# Altium footprint library Connector_PinHeader_1.00mm.PcbLib: 278 footprints (part 12 of 18)
Each footprint in its own frame and in the unit in brackets; x right, y up, seen from the top. Pads: shape width x height; smd on the part's side, far side on the other; paste and mask are expansions set on the pad; w line width, h text height; cw(c..) or ccw(c..) is an arc to the next point about the centre after c.
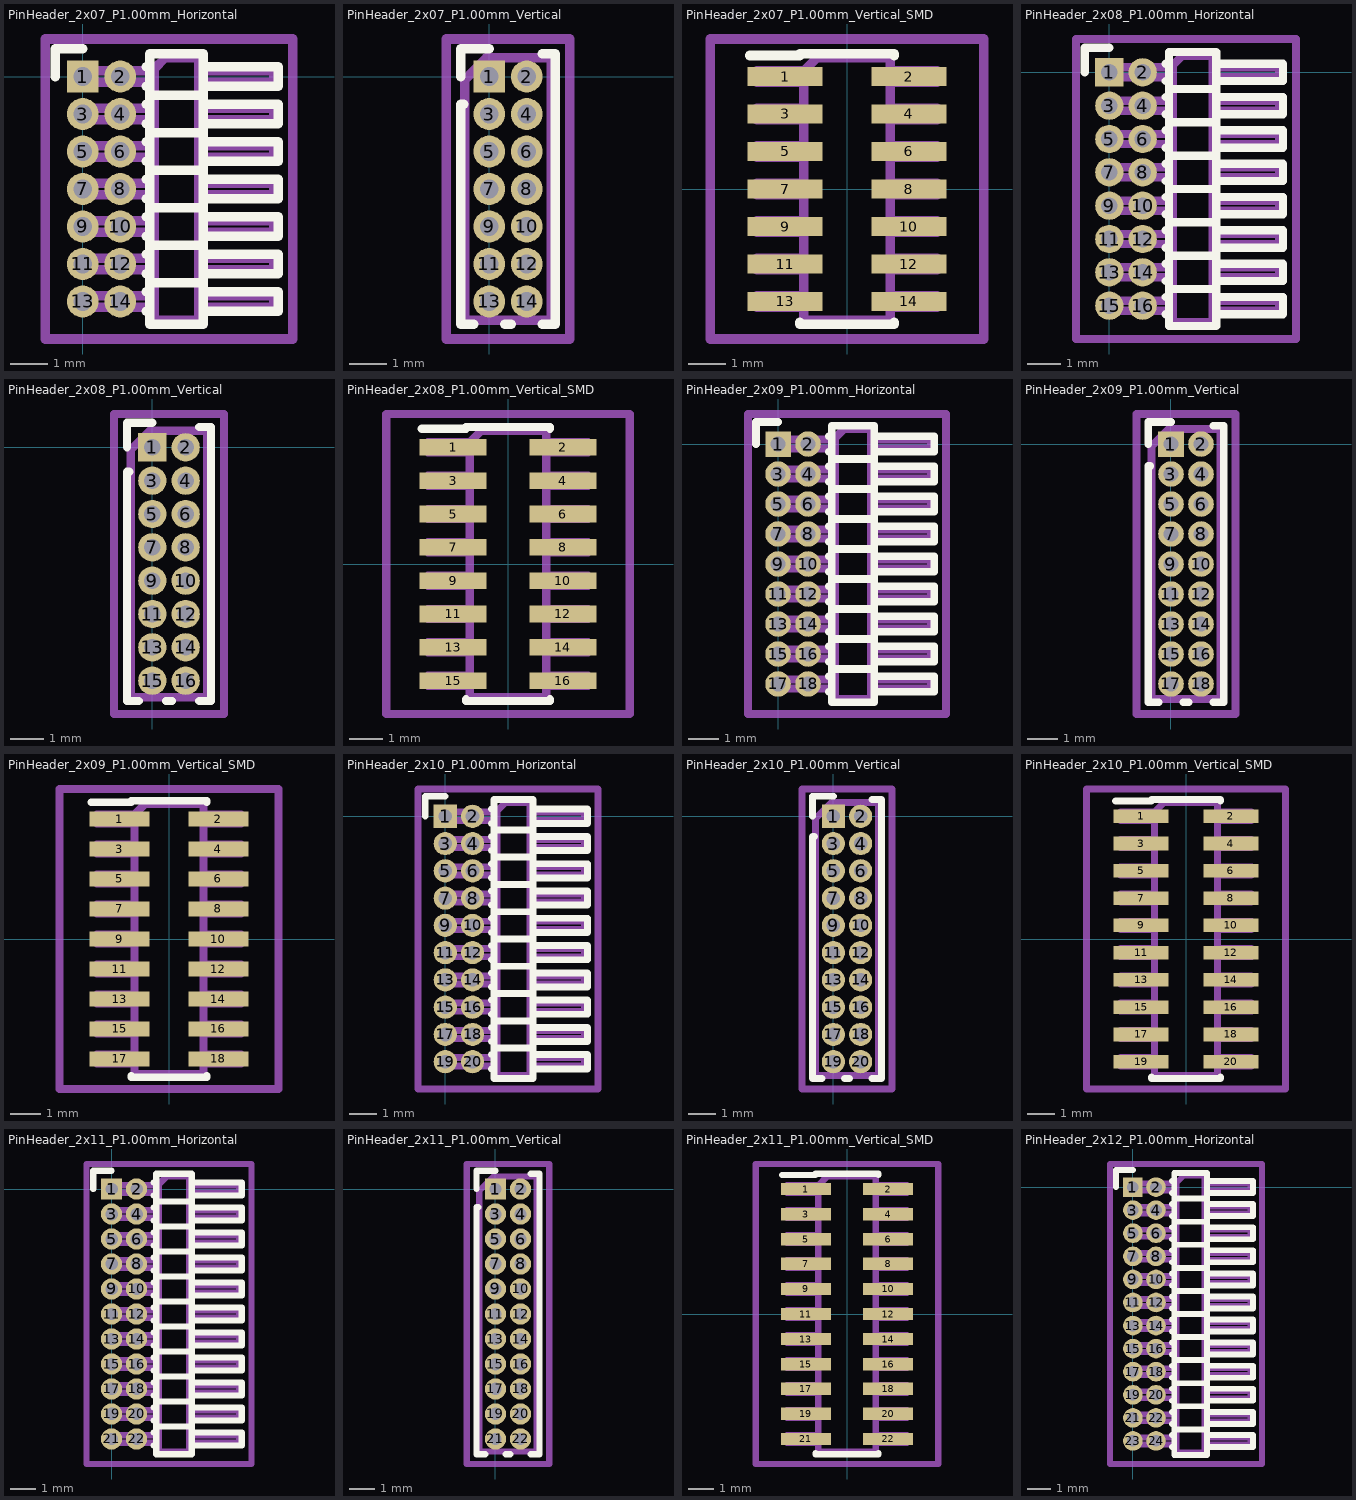
[diagram p11: the footprints below, top view; thin cyan lines are the x and y axes]

## PinHeader_2x07_P1.00mm_Horizontal [mm]
pads (14):
  rect 0.85x0.85 hole 0.5: 1(0,0)
  round 0.85 hole 0.5: 2(1,0) 3(0,-1) 4(1,-1) 5(0,-2) 6(1,-2) 7(0,-3) 8(1,-3) 9(0,-4) 10(1,-4) 11(0,-5) 12(1,-5) 13(0,-6) 14(1,-6)
F.SilkS:
  lines w0.254: -0.735,0 -0.735,0.735 0,0.735 ; 1.687,-6.26 1.79,-6.26 ; 1.687,-5.74 1.79,-5.74 ; 1.687,-5.26 1.79,-5.26 ; 1.687,-4.74 1.79,-4.74 ; 1.687,-4.26 1.79,-4.26 ; 1.687,-3.74 1.79,-3.74 ; 1.687,-3.26 1.79,-3.26 ; 1.687,-2.74 1.79,-2.74 ; 1.687,-2.26 1.79,-2.26 ; 1.687,-1.74 1.79,-1.74 ; 1.687,-1.26 1.79,-1.26 ; 1.687,-0.74 1.79,-0.74 ; 1.687,-0.26 1.79,-0.26 ; 1.687,0.26 1.79,0.26 ; 1.79,-5.5 3.21,-5.5 ; 1.79,-4.5 3.21,-4.5 ; 1.79,-3.5 3.21,-3.5 ; 1.79,-2.5 3.21,-2.5 ; 1.79,-1.5 3.21,-1.5 ; 1.79,-0.5 3.21,-0.5 ; 3.21,-6.26 5.21,-6.26 5.21,-5.74 3.21,-5.74 ; 3.21,-5.26 5.21,-5.26 5.21,-4.74 3.21,-4.74 ; 3.21,-4.26 5.21,-4.26 5.21,-3.74 3.21,-3.74 ; 3.21,-3.26 5.21,-3.26 5.21,-2.74 3.21,-2.74 ; 3.21,-2.26 5.21,-2.26 5.21,-1.74 3.21,-1.74 ; 3.21,-1.26 5.21,-1.26 5.21,-0.74 3.21,-0.74 ; 1.79,-6.61 3.21,-6.61 3.21,0.61 1.79,0.61 1.79,-6.61 ; 3.21,-0.26 5.21,-0.26 5.21,0.26 3.21,0.26 3.21,-0.26
Top Assembly:
  lines w0.254: 1.9,-6.15 -0.15,-6.15 -0.15,-5.85 1.9,-5.85 ; 1.9,-5.15 -0.15,-5.15 -0.15,-4.85 1.9,-4.85 ; 1.9,-4.15 -0.15,-4.15 -0.15,-3.85 1.9,-3.85 ; 1.9,-3.15 -0.15,-3.15 -0.15,-2.85 1.9,-2.85 ; 1.9,-2.15 -0.15,-2.15 -0.15,-1.85 1.9,-1.85 ; 1.9,-1.15 -0.15,-1.15 -0.15,-0.85 1.9,-0.85 ; 1.9,-0.15 -0.15,-0.15 -0.15,0.15 1.9,0.15 ; 3.1,-6.15 5.1,-6.15 5.1,-5.85 3.1,-5.85 ; 3.1,-5.15 5.1,-5.15 5.1,-4.85 3.1,-4.85 ; 3.1,-4.15 5.1,-4.15 5.1,-3.85 3.1,-3.85 ; 3.1,-3.15 5.1,-3.15 5.1,-2.85 3.1,-2.85 ; 3.1,-2.15 5.1,-2.15 5.1,-1.85 3.1,-1.85 ; 3.1,-1.15 5.1,-1.15 5.1,-0.85 3.1,-0.85 ; 3.1,-0.15 5.1,-0.15 5.1,0.15 3.1,0.15 ; 1.9,-6.5 3.1,-6.5 3.1,0.5 2.2,0.5 1.9,0.2 1.9,-6.5
  text "'.Designator'" at 3.105,-5.914 h0.72
Top Courtyard:
  lines w0.254: -1,-7 5.6,-7 5.6,1 -1,1 -1,-7
Top Designator:
  text ".Designator" at -5.318,-3.508 h1.52

## PinHeader_2x07_P1.00mm_Vertical [mm]
pads (14):
  rect 0.85x0.85 hole 0.5: 1(0,0)
  round 0.85 hole 0.5: 2(1,0) 3(0,-1) 4(1,-1) 5(0,-2) 6(1,-2) 7(0,-3) 8(1,-3) 9(0,-4) 10(1,-4) 11(0,-5) 12(1,-5) 13(0,-6) 14(1,-6)
F.SilkS:
  lines w0.254: -0.76,0 -0.76,0.735 0,0.735 ; -0.686,-0.735 -0.76,-0.735 -0.76,-6.61 -0.41,-6.61 ; 0.41,-6.61 0.59,-6.61 ; 1.41,-6.61 1.76,-6.61 1.76,0.61 1.41,0.61
Top Assembly:
  lines w0.254: -0.65,-6.5 1.65,-6.5 1.65,0.5 -0.075,0.5 -0.65,-0.075 -0.65,-6.5
  text "'.Designator'" at 1.34,-7.047 h1
Top Courtyard:
  lines w0.254: -1.15,-7 2.15,-7 2.15,1 -1.15,1 -1.15,-7
Top Designator:
  text ".Designator" at -7.118,-3.543 h1.52

## PinHeader_2x07_P1.00mm_Vertical_SMD [mm]
pads (14):
  rect 2x0.5 smd: 1(-1.65,3) 2(1.65,3) 3(-1.65,2) 4(1.65,2) 5(-1.65,1) 6(1.65,1) 7(-1.65,0) 8(1.65,0) 9(-1.65,-1) 10(1.65,-1) 11(-1.65,-2) 12(1.65,-2) 13(-1.65,-3) 14(1.65,-3)
F.SilkS:
  lines w0.254: -2.59,3.56 -1.26,3.56 -1.26,3.61 1.26,3.61 1.26,3.56 ; -1.26,-3.56 -1.26,-3.61 1.26,-3.61 1.26,-3.56
Top Assembly:
  lines w0.254: -1.15,-3.15 -2.4,-3.15 -2.4,-2.85 -1.15,-2.85 ; -1.15,-2.15 -2.4,-2.15 -2.4,-1.85 -1.15,-1.85 ; -1.15,-1.15 -2.4,-1.15 -2.4,-0.85 -1.15,-0.85 ; -1.15,-0.15 -2.4,-0.15 -2.4,0.15 -1.15,0.15 ; -1.15,0.85 -2.4,0.85 -2.4,1.15 -1.15,1.15 ; -1.15,1.85 -2.4,1.85 -2.4,2.15 -1.15,2.15 ; -1.15,2.85 -2.4,2.85 -2.4,3.15 -1.15,3.15 ; 1.15,-3.15 2.4,-3.15 2.4,-2.85 1.15,-2.85 ; 1.15,-2.15 2.4,-2.15 2.4,-1.85 1.15,-1.85 ; 1.15,-1.15 2.4,-1.15 2.4,-0.85 1.15,-0.85 ; 1.15,-0.15 2.4,-0.15 2.4,0.15 1.15,0.15 ; 1.15,0.85 2.4,0.85 2.4,1.15 1.15,1.15 ; 1.15,1.85 2.4,1.85 2.4,2.15 1.15,2.15 ; 1.15,2.85 2.4,2.85 2.4,3.15 1.15,3.15 ; -1.15,3.15 -1.15,-3.5 1.15,-3.5 1.15,3.5 -0.8,3.5 -1.15,3.15
  text "'.Designator'" at 0.84,-4.047 h1
Top Courtyard:
  lines w0.254: -3.65,-4 3.65,-4 3.65,4 -3.65,4 -3.65,-4
Top Designator:
  text ".Designator" at -7.618,-0.543 h1.52

## PinHeader_2x08_P1.00mm_Horizontal [mm]
pads (16):
  rect 0.85x0.85 hole 0.5: 1(0,0)
  round 0.85 hole 0.5: 2(1,0) 3(0,-1) 4(1,-1) 5(0,-2) 6(1,-2) 7(0,-3) 8(1,-3) 9(0,-4) 10(1,-4) 11(0,-5) 12(1,-5) 13(0,-6) 14(1,-6) 15(0,-7) 16(1,-7)
F.SilkS:
  lines w0.254: -0.735,0 -0.735,0.735 0,0.735 ; 1.687,-7.26 1.79,-7.26 ; 1.687,-6.74 1.79,-6.74 ; 1.687,-6.26 1.79,-6.26 ; 1.687,-5.74 1.79,-5.74 ; 1.687,-5.26 1.79,-5.26 ; 1.687,-4.74 1.79,-4.74 ; 1.687,-4.26 1.79,-4.26 ; 1.687,-3.74 1.79,-3.74 ; 1.687,-3.26 1.79,-3.26 ; 1.687,-2.74 1.79,-2.74 ; 1.687,-2.26 1.79,-2.26 ; 1.687,-1.74 1.79,-1.74 ; 1.687,-1.26 1.79,-1.26 ; 1.687,-0.74 1.79,-0.74 ; 1.687,-0.26 1.79,-0.26 ; 1.687,0.26 1.79,0.26 ; 1.79,-6.5 3.21,-6.5 ; 1.79,-5.5 3.21,-5.5 ; 1.79,-4.5 3.21,-4.5 ; 1.79,-3.5 3.21,-3.5 ; 1.79,-2.5 3.21,-2.5 ; 1.79,-1.5 3.21,-1.5 ; 1.79,-0.5 3.21,-0.5 ; 3.21,-7.26 5.21,-7.26 5.21,-6.74 3.21,-6.74 ; 3.21,-6.26 5.21,-6.26 5.21,-5.74 3.21,-5.74 ; 3.21,-5.26 5.21,-5.26 5.21,-4.74 3.21,-4.74 ; 3.21,-4.26 5.21,-4.26 5.21,-3.74 3.21,-3.74 ; 3.21,-3.26 5.21,-3.26 5.21,-2.74 3.21,-2.74 ; 3.21,-2.26 5.21,-2.26 5.21,-1.74 3.21,-1.74 ; 3.21,-1.26 5.21,-1.26 5.21,-0.74 3.21,-0.74 ; 1.79,-7.61 3.21,-7.61 3.21,0.61 1.79,0.61 1.79,-7.61 ; 3.21,-0.26 5.21,-0.26 5.21,0.26 3.21,0.26 3.21,-0.26
Top Assembly:
  lines w0.254: 1.9,-7.15 -0.15,-7.15 -0.15,-6.85 1.9,-6.85 ; 1.9,-6.15 -0.15,-6.15 -0.15,-5.85 1.9,-5.85 ; 1.9,-5.15 -0.15,-5.15 -0.15,-4.85 1.9,-4.85 ; 1.9,-4.15 -0.15,-4.15 -0.15,-3.85 1.9,-3.85 ; 1.9,-3.15 -0.15,-3.15 -0.15,-2.85 1.9,-2.85 ; 1.9,-2.15 -0.15,-2.15 -0.15,-1.85 1.9,-1.85 ; 1.9,-1.15 -0.15,-1.15 -0.15,-0.85 1.9,-0.85 ; 1.9,-0.15 -0.15,-0.15 -0.15,0.15 1.9,0.15 ; 3.1,-7.15 5.1,-7.15 5.1,-6.85 3.1,-6.85 ; 3.1,-6.15 5.1,-6.15 5.1,-5.85 3.1,-5.85 ; 3.1,-5.15 5.1,-5.15 5.1,-4.85 3.1,-4.85 ; 3.1,-4.15 5.1,-4.15 5.1,-3.85 3.1,-3.85 ; 3.1,-3.15 5.1,-3.15 5.1,-2.85 3.1,-2.85 ; 3.1,-2.15 5.1,-2.15 5.1,-1.85 3.1,-1.85 ; 3.1,-1.15 5.1,-1.15 5.1,-0.85 3.1,-0.85 ; 3.1,-0.15 5.1,-0.15 5.1,0.15 3.1,0.15 ; 1.9,-7.5 3.1,-7.5 3.1,0.5 2.2,0.5 1.9,0.2 1.9,-7.5
  text "'.Designator'" at 3.105,-6.414 h0.72
Top Courtyard:
  lines w0.254: -1,-8 5.6,-8 5.6,1 -1,1 -1,-8
Top Designator:
  text ".Designator" at -5.318,-4.008 h1.52

## PinHeader_2x08_P1.00mm_Vertical [mm]
pads (16):
  rect 0.85x0.85 hole 0.5: 1(0,0)
  round 0.85 hole 0.5: 2(1,0) 3(0,-1) 4(1,-1) 5(0,-2) 6(1,-2) 7(0,-3) 8(1,-3) 9(0,-4) 10(1,-4) 11(0,-5) 12(1,-5) 13(0,-6) 14(1,-6) 15(0,-7) 16(1,-7)
F.SilkS:
  lines w0.254: -0.76,0 -0.76,0.735 0,0.735 ; -0.686,-0.735 -0.76,-0.735 -0.76,-7.61 -0.41,-7.61 ; 0.41,-7.61 0.59,-7.61 ; 1.41,-7.61 1.76,-7.61 1.76,0.61 1.41,0.61
Top Assembly:
  lines w0.254: -0.65,-7.5 1.65,-7.5 1.65,0.5 -0.075,0.5 -0.65,-0.075 -0.65,-7.5
  text "'.Designator'" at 1.34,-7.547 h1
Top Courtyard:
  lines w0.254: -1.15,-8 2.15,-8 2.15,1 -1.15,1 -1.15,-8
Top Designator:
  text ".Designator" at -7.118,-4.008 h1.52

## PinHeader_2x08_P1.00mm_Vertical_SMD [mm]
pads (16):
  rect 2x0.5 smd: 1(-1.65,3.5) 2(1.65,3.5) 3(-1.65,2.5) 4(1.65,2.5) 5(-1.65,1.5) 6(1.65,1.5) 7(-1.65,0.5) 8(1.65,0.5) 9(-1.65,-0.5) 10(1.65,-0.5) 11(-1.65,-1.5) 12(1.65,-1.5) 13(-1.65,-2.5) 14(1.65,-2.5) 15(-1.65,-3.5) 16(1.65,-3.5)
F.SilkS:
  lines w0.254: -2.59,4.06 -1.26,4.06 -1.26,4.11 1.26,4.11 1.26,4.06 ; -1.26,-4.06 -1.26,-4.11 1.26,-4.11 1.26,-4.06
Top Assembly:
  lines w0.254: -1.15,-3.65 -2.4,-3.65 -2.4,-3.35 -1.15,-3.35 ; -1.15,-2.65 -2.4,-2.65 -2.4,-2.35 -1.15,-2.35 ; -1.15,-1.65 -2.4,-1.65 -2.4,-1.35 -1.15,-1.35 ; -1.15,-0.65 -2.4,-0.65 -2.4,-0.35 -1.15,-0.35 ; -1.15,0.35 -2.4,0.35 -2.4,0.65 -1.15,0.65 ; -1.15,1.35 -2.4,1.35 -2.4,1.65 -1.15,1.65 ; -1.15,2.35 -2.4,2.35 -2.4,2.65 -1.15,2.65 ; -1.15,3.35 -2.4,3.35 -2.4,3.65 -1.15,3.65 ; 1.15,-3.65 2.4,-3.65 2.4,-3.35 1.15,-3.35 ; 1.15,-2.65 2.4,-2.65 2.4,-2.35 1.15,-2.35 ; 1.15,-1.65 2.4,-1.65 2.4,-1.35 1.15,-1.35 ; 1.15,-0.65 2.4,-0.65 2.4,-0.35 1.15,-0.35 ; 1.15,0.35 2.4,0.35 2.4,0.65 1.15,0.65 ; 1.15,1.35 2.4,1.35 2.4,1.65 1.15,1.65 ; 1.15,2.35 2.4,2.35 2.4,2.65 1.15,2.65 ; 1.15,3.35 2.4,3.35 2.4,3.65 1.15,3.65 ; -1.15,3.65 -1.15,-4 1.15,-4 1.15,4 -0.8,4 -1.15,3.65
  text "'.Designator'" at 0.84,-4.047 h1
Top Courtyard:
  lines w0.254: -3.65,-4.5 3.65,-4.5 3.65,4.5 -3.65,4.5 -3.65,-4.5
Top Designator:
  text ".Designator" at -7.618,-0.508 h1.52

## PinHeader_2x09_P1.00mm_Horizontal [mm]
pads (18):
  rect 0.85x0.85 hole 0.5: 1(0,0)
  round 0.85 hole 0.5: 2(1,0) 3(0,-1) 4(1,-1) 5(0,-2) 6(1,-2) 7(0,-3) 8(1,-3) 9(0,-4) 10(1,-4) 11(0,-5) 12(1,-5) 13(0,-6) 14(1,-6) 15(0,-7) 16(1,-7) 17(0,-8) 18(1,-8)
F.SilkS:
  lines w0.254: -0.735,0 -0.735,0.735 0,0.735 ; 1.687,-8.26 1.79,-8.26 ; 1.687,-7.74 1.79,-7.74 ; 1.687,-7.26 1.79,-7.26 ; 1.687,-6.74 1.79,-6.74 ; 1.687,-6.26 1.79,-6.26 ; 1.687,-5.74 1.79,-5.74 ; 1.687,-5.26 1.79,-5.26 ; 1.687,-4.74 1.79,-4.74 ; 1.687,-4.26 1.79,-4.26 ; 1.687,-3.74 1.79,-3.74 ; 1.687,-3.26 1.79,-3.26 ; 1.687,-2.74 1.79,-2.74 ; 1.687,-2.26 1.79,-2.26 ; 1.687,-1.74 1.79,-1.74 ; 1.687,-1.26 1.79,-1.26 ; 1.687,-0.74 1.79,-0.74 ; 1.687,-0.26 1.79,-0.26 ; 1.687,0.26 1.79,0.26 ; 1.79,-7.5 3.21,-7.5 ; 1.79,-6.5 3.21,-6.5 ; 1.79,-5.5 3.21,-5.5 ; 1.79,-4.5 3.21,-4.5 ; 1.79,-3.5 3.21,-3.5 ; 1.79,-2.5 3.21,-2.5 ; 1.79,-1.5 3.21,-1.5 ; 1.79,-0.5 3.21,-0.5 ; 3.21,-8.26 5.21,-8.26 5.21,-7.74 3.21,-7.74 ; 3.21,-7.26 5.21,-7.26 5.21,-6.74 3.21,-6.74 ; 3.21,-6.26 5.21,-6.26 5.21,-5.74 3.21,-5.74 ; 3.21,-5.26 5.21,-5.26 5.21,-4.74 3.21,-4.74 ; 3.21,-4.26 5.21,-4.26 5.21,-3.74 3.21,-3.74 ; 3.21,-3.26 5.21,-3.26 5.21,-2.74 3.21,-2.74 ; 3.21,-2.26 5.21,-2.26 5.21,-1.74 3.21,-1.74 ; 3.21,-1.26 5.21,-1.26 5.21,-0.74 3.21,-0.74 ; 1.79,-8.61 3.21,-8.61 3.21,0.61 1.79,0.61 1.79,-8.61 ; 3.21,-0.26 5.21,-0.26 5.21,0.26 3.21,0.26 3.21,-0.26
Top Assembly:
  lines w0.254: 1.9,-8.15 -0.15,-8.15 -0.15,-7.85 1.9,-7.85 ; 1.9,-7.15 -0.15,-7.15 -0.15,-6.85 1.9,-6.85 ; 1.9,-6.15 -0.15,-6.15 -0.15,-5.85 1.9,-5.85 ; 1.9,-5.15 -0.15,-5.15 -0.15,-4.85 1.9,-4.85 ; 1.9,-4.15 -0.15,-4.15 -0.15,-3.85 1.9,-3.85 ; 1.9,-3.15 -0.15,-3.15 -0.15,-2.85 1.9,-2.85 ; 1.9,-2.15 -0.15,-2.15 -0.15,-1.85 1.9,-1.85 ; 1.9,-1.15 -0.15,-1.15 -0.15,-0.85 1.9,-0.85 ; 1.9,-0.15 -0.15,-0.15 -0.15,0.15 1.9,0.15 ; 3.1,-8.15 5.1,-8.15 5.1,-7.85 3.1,-7.85 ; 3.1,-7.15 5.1,-7.15 5.1,-6.85 3.1,-6.85 ; 3.1,-6.15 5.1,-6.15 5.1,-5.85 3.1,-5.85 ; 3.1,-5.15 5.1,-5.15 5.1,-4.85 3.1,-4.85 ; 3.1,-4.15 5.1,-4.15 5.1,-3.85 3.1,-3.85 ; 3.1,-3.15 5.1,-3.15 5.1,-2.85 3.1,-2.85 ; 3.1,-2.15 5.1,-2.15 5.1,-1.85 3.1,-1.85 ; 3.1,-1.15 5.1,-1.15 5.1,-0.85 3.1,-0.85 ; 3.1,-0.15 5.1,-0.15 5.1,0.15 3.1,0.15 ; 1.9,-8.5 3.1,-8.5 3.1,0.5 2.2,0.5 1.9,0.2 1.9,-8.5
  text "'.Designator'" at 3.105,-6.914 h0.72
Top Courtyard:
  lines w0.254: -1,-9 5.6,-9 5.6,1 -1,1 -1,-9
Top Designator:
  text ".Designator" at -5.318,-4.508 h1.52

## PinHeader_2x09_P1.00mm_Vertical [mm]
pads (18):
  rect 0.85x0.85 hole 0.5: 1(0,0)
  round 0.85 hole 0.5: 2(1,0) 3(0,-1) 4(1,-1) 5(0,-2) 6(1,-2) 7(0,-3) 8(1,-3) 9(0,-4) 10(1,-4) 11(0,-5) 12(1,-5) 13(0,-6) 14(1,-6) 15(0,-7) 16(1,-7) 17(0,-8) 18(1,-8)
F.SilkS:
  lines w0.254: -0.76,0 -0.76,0.735 0,0.735 ; -0.686,-0.735 -0.76,-0.735 -0.76,-8.61 -0.41,-8.61 ; 0.41,-8.61 0.59,-8.61 ; 1.41,-8.61 1.76,-8.61 1.76,0.61 1.41,0.61
Top Assembly:
  lines w0.254: -0.65,-8.5 1.65,-8.5 1.65,0.5 -0.075,0.5 -0.65,-0.075 -0.65,-8.5
  text "'.Designator'" at 1.34,-8.047 h1
Top Courtyard:
  lines w0.254: -1.15,-9 2.15,-9 2.15,1 -1.15,1 -1.15,-9
Top Designator:
  text ".Designator" at -7.118,-4.508 h1.52

## PinHeader_2x09_P1.00mm_Vertical_SMD [mm]
pads (18):
  rect 2x0.5 smd: 1(-1.65,4) 2(1.65,4) 3(-1.65,3) 4(1.65,3) 5(-1.65,2) 6(1.65,2) 7(-1.65,1) 8(1.65,1) 9(-1.65,0) 10(1.65,0) 11(-1.65,-1) 12(1.65,-1) 13(-1.65,-2) 14(1.65,-2) 15(-1.65,-3) 16(1.65,-3) 17(-1.65,-4) 18(1.65,-4)
F.SilkS:
  lines w0.254: -2.59,4.56 -1.26,4.56 -1.26,4.61 1.26,4.61 1.26,4.56 ; -1.26,-4.56 -1.26,-4.61 1.26,-4.61 1.26,-4.56
Top Assembly:
  lines w0.254: -1.15,-4.15 -2.4,-4.15 -2.4,-3.85 -1.15,-3.85 ; -1.15,-3.15 -2.4,-3.15 -2.4,-2.85 -1.15,-2.85 ; -1.15,-2.15 -2.4,-2.15 -2.4,-1.85 -1.15,-1.85 ; -1.15,-1.15 -2.4,-1.15 -2.4,-0.85 -1.15,-0.85 ; -1.15,-0.15 -2.4,-0.15 -2.4,0.15 -1.15,0.15 ; -1.15,0.85 -2.4,0.85 -2.4,1.15 -1.15,1.15 ; -1.15,1.85 -2.4,1.85 -2.4,2.15 -1.15,2.15 ; -1.15,2.85 -2.4,2.85 -2.4,3.15 -1.15,3.15 ; -1.15,3.85 -2.4,3.85 -2.4,4.15 -1.15,4.15 ; 1.15,-4.15 2.4,-4.15 2.4,-3.85 1.15,-3.85 ; 1.15,-3.15 2.4,-3.15 2.4,-2.85 1.15,-2.85 ; 1.15,-2.15 2.4,-2.15 2.4,-1.85 1.15,-1.85 ; 1.15,-1.15 2.4,-1.15 2.4,-0.85 1.15,-0.85 ; 1.15,-0.15 2.4,-0.15 2.4,0.15 1.15,0.15 ; 1.15,0.85 2.4,0.85 2.4,1.15 1.15,1.15 ; 1.15,1.85 2.4,1.85 2.4,2.15 1.15,2.15 ; 1.15,2.85 2.4,2.85 2.4,3.15 1.15,3.15 ; 1.15,3.85 2.4,3.85 2.4,4.15 1.15,4.15 ; -1.15,4.15 -1.15,-4.5 1.15,-4.5 1.15,4.5 -0.8,4.5 -1.15,4.15
  text "'.Designator'" at 0.84,-4.047 h1
Top Courtyard:
  lines w0.254: -3.65,-5 3.65,-5 3.65,5 -3.65,5 -3.65,-5
Top Designator:
  text ".Designator" at -7.618,-0.508 h1.52

## PinHeader_2x10_P1.00mm_Horizontal [mm]
pads (20):
  rect 0.85x0.85 hole 0.5: 1(0,0)
  round 0.85 hole 0.5: 2(1,0) 3(0,-1) 4(1,-1) 5(0,-2) 6(1,-2) 7(0,-3) 8(1,-3) 9(0,-4) 10(1,-4) 11(0,-5) 12(1,-5) 13(0,-6) 14(1,-6) 15(0,-7) 16(1,-7) 17(0,-8) 18(1,-8) 19(0,-9) 20(1,-9)
F.SilkS:
  lines w0.254: -0.735,0 -0.735,0.735 0,0.735 ; 1.687,-9.26 1.79,-9.26 ; 1.687,-8.74 1.79,-8.74 ; 1.687,-8.26 1.79,-8.26 ; 1.687,-7.74 1.79,-7.74 ; 1.687,-7.26 1.79,-7.26 ; 1.687,-6.74 1.79,-6.74 ; 1.687,-6.26 1.79,-6.26 ; 1.687,-5.74 1.79,-5.74 ; 1.687,-5.26 1.79,-5.26 ; 1.687,-4.74 1.79,-4.74 ; 1.687,-4.26 1.79,-4.26 ; 1.687,-3.74 1.79,-3.74 ; 1.687,-3.26 1.79,-3.26 ; 1.687,-2.74 1.79,-2.74 ; 1.687,-2.26 1.79,-2.26 ; 1.687,-1.74 1.79,-1.74 ; 1.687,-1.26 1.79,-1.26 ; 1.687,-0.74 1.79,-0.74 ; 1.687,-0.26 1.79,-0.26 ; 1.687,0.26 1.79,0.26 ; 1.79,-8.5 3.21,-8.5 ; 1.79,-7.5 3.21,-7.5 ; 1.79,-6.5 3.21,-6.5 ; 1.79,-5.5 3.21,-5.5 ; 1.79,-4.5 3.21,-4.5 ; 1.79,-3.5 3.21,-3.5 ; 1.79,-2.5 3.21,-2.5 ; 1.79,-1.5 3.21,-1.5 ; 1.79,-0.5 3.21,-0.5 ; 3.21,-9.26 5.21,-9.26 5.21,-8.74 3.21,-8.74 ; 3.21,-8.26 5.21,-8.26 5.21,-7.74 3.21,-7.74 ; 3.21,-7.26 5.21,-7.26 5.21,-6.74 3.21,-6.74 ; 3.21,-6.26 5.21,-6.26 5.21,-5.74 3.21,-5.74 ; 3.21,-5.26 5.21,-5.26 5.21,-4.74 3.21,-4.74 ; 3.21,-4.26 5.21,-4.26 5.21,-3.74 3.21,-3.74 ; 3.21,-3.26 5.21,-3.26 5.21,-2.74 3.21,-2.74 ; 3.21,-2.26 5.21,-2.26 5.21,-1.74 3.21,-1.74 ; 3.21,-1.26 5.21,-1.26 5.21,-0.74 3.21,-0.74 ; 1.79,-9.61 3.21,-9.61 3.21,0.61 1.79,0.61 1.79,-9.61 ; 3.21,-0.26 5.21,-0.26 5.21,0.26 3.21,0.26 3.21,-0.26
Top Assembly:
  lines w0.254: 1.9,-9.15 -0.15,-9.15 -0.15,-8.85 1.9,-8.85 ; 1.9,-8.15 -0.15,-8.15 -0.15,-7.85 1.9,-7.85 ; 1.9,-7.15 -0.15,-7.15 -0.15,-6.85 1.9,-6.85 ; 1.9,-6.15 -0.15,-6.15 -0.15,-5.85 1.9,-5.85 ; 1.9,-5.15 -0.15,-5.15 -0.15,-4.85 1.9,-4.85 ; 1.9,-4.15 -0.15,-4.15 -0.15,-3.85 1.9,-3.85 ; 1.9,-3.15 -0.15,-3.15 -0.15,-2.85 1.9,-2.85 ; 1.9,-2.15 -0.15,-2.15 -0.15,-1.85 1.9,-1.85 ; 1.9,-1.15 -0.15,-1.15 -0.15,-0.85 1.9,-0.85 ; 1.9,-0.15 -0.15,-0.15 -0.15,0.15 1.9,0.15 ; 3.1,-9.15 5.1,-9.15 5.1,-8.85 3.1,-8.85 ; 3.1,-8.15 5.1,-8.15 5.1,-7.85 3.1,-7.85 ; 3.1,-7.15 5.1,-7.15 5.1,-6.85 3.1,-6.85 ; 3.1,-6.15 5.1,-6.15 5.1,-5.85 3.1,-5.85 ; 3.1,-5.15 5.1,-5.15 5.1,-4.85 3.1,-4.85 ; 3.1,-4.15 5.1,-4.15 5.1,-3.85 3.1,-3.85 ; 3.1,-3.15 5.1,-3.15 5.1,-2.85 3.1,-2.85 ; 3.1,-2.15 5.1,-2.15 5.1,-1.85 3.1,-1.85 ; 3.1,-1.15 5.1,-1.15 5.1,-0.85 3.1,-0.85 ; 3.1,-0.15 5.1,-0.15 5.1,0.15 3.1,0.15 ; 1.9,-9.5 3.1,-9.5 3.1,0.5 2.2,0.5 1.9,0.2 1.9,-9.5
  text "'.Designator'" at 3.105,-7.414 h0.72
Top Courtyard:
  lines w0.254: -1,-10 5.6,-10 5.6,1 -1,1 -1,-10
Top Designator:
  text ".Designator" at -5.318,-5.008 h1.52

## PinHeader_2x10_P1.00mm_Vertical [mm]
pads (20):
  rect 0.85x0.85 hole 0.5: 1(0,0)
  round 0.85 hole 0.5: 2(1,0) 3(0,-1) 4(1,-1) 5(0,-2) 6(1,-2) 7(0,-3) 8(1,-3) 9(0,-4) 10(1,-4) 11(0,-5) 12(1,-5) 13(0,-6) 14(1,-6) 15(0,-7) 16(1,-7) 17(0,-8) 18(1,-8) 19(0,-9) 20(1,-9)
F.SilkS:
  lines w0.254: -0.76,0 -0.76,0.735 0,0.735 ; -0.686,-0.735 -0.76,-0.735 -0.76,-9.61 -0.41,-9.61 ; 0.41,-9.61 0.59,-9.61 ; 1.41,-9.61 1.76,-9.61 1.76,0.61 1.41,0.61
Top Assembly:
  lines w0.254: -0.65,-9.5 1.65,-9.5 1.65,0.5 -0.075,0.5 -0.65,-0.075 -0.65,-9.5
  text "'.Designator'" at 1.34,-8.547 h1
Top Courtyard:
  lines w0.254: -1.15,-10 2.15,-10 2.15,1 -1.15,1 -1.15,-10
Top Designator:
  text ".Designator" at -7.118,-5.008 h1.52

## PinHeader_2x10_P1.00mm_Vertical_SMD [mm]
pads (20):
  rect 2x0.5 smd: 1(-1.65,4.5) 2(1.65,4.5) 3(-1.65,3.5) 4(1.65,3.5) 5(-1.65,2.5) 6(1.65,2.5) 7(-1.65,1.5) 8(1.65,1.5) 9(-1.65,0.5) 10(1.65,0.5) 11(-1.65,-0.5) 12(1.65,-0.5) 13(-1.65,-1.5) 14(1.65,-1.5) 15(-1.65,-2.5) 16(1.65,-2.5) 17(-1.65,-3.5) 18(1.65,-3.5) 19(-1.65,-4.5) 20(1.65,-4.5)
F.SilkS:
  lines w0.254: -2.59,5.06 -1.26,5.06 -1.26,5.11 1.26,5.11 1.26,5.06 ; -1.26,-5.06 -1.26,-5.11 1.26,-5.11 1.26,-5.06
Top Assembly:
  lines w0.254: -1.15,-4.65 -2.4,-4.65 -2.4,-4.35 -1.15,-4.35 ; -1.15,-3.65 -2.4,-3.65 -2.4,-3.35 -1.15,-3.35 ; -1.15,-2.65 -2.4,-2.65 -2.4,-2.35 -1.15,-2.35 ; -1.15,-1.65 -2.4,-1.65 -2.4,-1.35 -1.15,-1.35 ; -1.15,-0.65 -2.4,-0.65 -2.4,-0.35 -1.15,-0.35 ; -1.15,0.35 -2.4,0.35 -2.4,0.65 -1.15,0.65 ; -1.15,1.35 -2.4,1.35 -2.4,1.65 -1.15,1.65 ; -1.15,2.35 -2.4,2.35 -2.4,2.65 -1.15,2.65 ; -1.15,3.35 -2.4,3.35 -2.4,3.65 -1.15,3.65 ; -1.15,4.35 -2.4,4.35 -2.4,4.65 -1.15,4.65 ; 1.15,-4.65 2.4,-4.65 2.4,-4.35 1.15,-4.35 ; 1.15,-3.65 2.4,-3.65 2.4,-3.35 1.15,-3.35 ; 1.15,-2.65 2.4,-2.65 2.4,-2.35 1.15,-2.35 ; 1.15,-1.65 2.4,-1.65 2.4,-1.35 1.15,-1.35 ; 1.15,-0.65 2.4,-0.65 2.4,-0.35 1.15,-0.35 ; 1.15,0.35 2.4,0.35 2.4,0.65 1.15,0.65 ; 1.15,1.35 2.4,1.35 2.4,1.65 1.15,1.65 ; 1.15,2.35 2.4,2.35 2.4,2.65 1.15,2.65 ; 1.15,3.35 2.4,3.35 2.4,3.65 1.15,3.65 ; 1.15,4.35 2.4,4.35 2.4,4.65 1.15,4.65 ; -1.15,4.65 -1.15,-5 1.15,-5 1.15,5 -0.8,5 -1.15,4.65
  text "'.Designator'" at 0.84,-4.047 h1
Top Courtyard:
  lines w0.254: -3.65,-5.5 3.65,-5.5 3.65,5.5 -3.65,5.5 -3.65,-5.5
Top Designator:
  text ".Designator" at -7.618,-0.508 h1.52

## PinHeader_2x11_P1.00mm_Horizontal [mm]
pads (22):
  rect 0.85x0.85 hole 0.5: 1(0,0)
  round 0.85 hole 0.5: 2(1,0) 3(0,-1) 4(1,-1) 5(0,-2) 6(1,-2) 7(0,-3) 8(1,-3) 9(0,-4) 10(1,-4) 11(0,-5) 12(1,-5) 13(0,-6) 14(1,-6) 15(0,-7) 16(1,-7) 17(0,-8) 18(1,-8) 19(0,-9) 20(1,-9) 21(0,-10) 22(1,-10)
F.SilkS:
  lines w0.254: -0.735,0 -0.735,0.735 0,0.735 ; 1.687,-10.26 1.79,-10.26 ; 1.687,-9.74 1.79,-9.74 ; 1.687,-9.26 1.79,-9.26 ; 1.687,-8.74 1.79,-8.74 ; 1.687,-8.26 1.79,-8.26 ; 1.687,-7.74 1.79,-7.74 ; 1.687,-7.26 1.79,-7.26 ; 1.687,-6.74 1.79,-6.74 ; 1.687,-6.26 1.79,-6.26 ; 1.687,-5.74 1.79,-5.74 ; 1.687,-5.26 1.79,-5.26 ; 1.687,-4.74 1.79,-4.74 ; 1.687,-4.26 1.79,-4.26 ; 1.687,-3.74 1.79,-3.74 ; 1.687,-3.26 1.79,-3.26 ; 1.687,-2.74 1.79,-2.74 ; 1.687,-2.26 1.79,-2.26 ; 1.687,-1.74 1.79,-1.74 ; 1.687,-1.26 1.79,-1.26 ; 1.687,-0.74 1.79,-0.74 ; 1.687,-0.26 1.79,-0.26 ; 1.687,0.26 1.79,0.26 ; 1.79,-9.5 3.21,-9.5 ; 1.79,-8.5 3.21,-8.5 ; 1.79,-7.5 3.21,-7.5 ; 1.79,-6.5 3.21,-6.5 ; 1.79,-5.5 3.21,-5.5 ; 1.79,-4.5 3.21,-4.5 ; 1.79,-3.5 3.21,-3.5 ; 1.79,-2.5 3.21,-2.5 ; 1.79,-1.5 3.21,-1.5 ; 1.79,-0.5 3.21,-0.5 ; 3.21,-10.26 5.21,-10.26 5.21,-9.74 3.21,-9.74 ; 3.21,-9.26 5.21,-9.26 5.21,-8.74 3.21,-8.74 ; 3.21,-8.26 5.21,-8.26 5.21,-7.74 3.21,-7.74 ; 3.21,-7.26 5.21,-7.26 5.21,-6.74 3.21,-6.74 ; 3.21,-6.26 5.21,-6.26 5.21,-5.74 3.21,-5.74 ; 3.21,-5.26 5.21,-5.26 5.21,-4.74 3.21,-4.74 ; 3.21,-4.26 5.21,-4.26 5.21,-3.74 3.21,-3.74 ; 3.21,-3.26 5.21,-3.26 5.21,-2.74 3.21,-2.74 ; 3.21,-2.26 5.21,-2.26 5.21,-1.74 3.21,-1.74 ; 3.21,-1.26 5.21,-1.26 5.21,-0.74 3.21,-0.74 ; 1.79,-10.61 3.21,-10.61 3.21,0.61 1.79,0.61 1.79,-10.61 ; 3.21,-0.26 5.21,-0.26 5.21,0.26 3.21,0.26 3.21,-0.26
Top Assembly:
  lines w0.254: 1.9,-10.15 -0.15,-10.15 -0.15,-9.85 1.9,-9.85 ; 1.9,-9.15 -0.15,-9.15 -0.15,-8.85 1.9,-8.85 ; 1.9,-8.15 -0.15,-8.15 -0.15,-7.85 1.9,-7.85 ; 1.9,-7.15 -0.15,-7.15 -0.15,-6.85 1.9,-6.85 ; 1.9,-6.15 -0.15,-6.15 -0.15,-5.85 1.9,-5.85 ; 1.9,-5.15 -0.15,-5.15 -0.15,-4.85 1.9,-4.85 ; 1.9,-4.15 -0.15,-4.15 -0.15,-3.85 1.9,-3.85 ; 1.9,-3.15 -0.15,-3.15 -0.15,-2.85 1.9,-2.85 ; 1.9,-2.15 -0.15,-2.15 -0.15,-1.85 1.9,-1.85 ; 1.9,-1.15 -0.15,-1.15 -0.15,-0.85 1.9,-0.85 ; 1.9,-0.15 -0.15,-0.15 -0.15,0.15 1.9,0.15 ; 3.1,-10.15 5.1,-10.15 5.1,-9.85 3.1,-9.85 ; 3.1,-9.15 5.1,-9.15 5.1,-8.85 3.1,-8.85 ; 3.1,-8.15 5.1,-8.15 5.1,-7.85 3.1,-7.85 ; 3.1,-7.15 5.1,-7.15 5.1,-6.85 3.1,-6.85 ; 3.1,-6.15 5.1,-6.15 5.1,-5.85 3.1,-5.85 ; 3.1,-5.15 5.1,-5.15 5.1,-4.85 3.1,-4.85 ; 3.1,-4.15 5.1,-4.15 5.1,-3.85 3.1,-3.85 ; 3.1,-3.15 5.1,-3.15 5.1,-2.85 3.1,-2.85 ; 3.1,-2.15 5.1,-2.15 5.1,-1.85 3.1,-1.85 ; 3.1,-1.15 5.1,-1.15 5.1,-0.85 3.1,-0.85 ; 3.1,-0.15 5.1,-0.15 5.1,0.15 3.1,0.15 ; 1.9,-10.5 3.1,-10.5 3.1,0.5 2.2,0.5 1.9,0.2 1.9,-10.5
  text "'.Designator'" at 3.105,-7.914 h0.72
Top Courtyard:
  lines w0.254: -1,-11 5.6,-11 5.6,1 -1,1 -1,-11
Top Designator:
  text ".Designator" at -5.318,-5.508 h1.52

## PinHeader_2x11_P1.00mm_Vertical [mm]
pads (22):
  rect 0.85x0.85 hole 0.5: 1(0,0)
  round 0.85 hole 0.5: 2(1,0) 3(0,-1) 4(1,-1) 5(0,-2) 6(1,-2) 7(0,-3) 8(1,-3) 9(0,-4) 10(1,-4) 11(0,-5) 12(1,-5) 13(0,-6) 14(1,-6) 15(0,-7) 16(1,-7) 17(0,-8) 18(1,-8) 19(0,-9) 20(1,-9) 21(0,-10) 22(1,-10)
F.SilkS:
  lines w0.254: -0.76,0 -0.76,0.735 0,0.735 ; -0.686,-0.735 -0.76,-0.735 -0.76,-10.61 -0.41,-10.61 ; 0.41,-10.61 0.59,-10.61 ; 1.41,-10.61 1.76,-10.61 1.76,0.61 1.41,0.61
Top Assembly:
  lines w0.254: -0.65,-10.5 1.65,-10.5 1.65,0.5 -0.075,0.5 -0.65,-0.075 -0.65,-10.5
  text "'.Designator'" at 1.34,-9.047 h1
Top Courtyard:
  lines w0.254: -1.15,-11 2.15,-11 2.15,1 -1.15,1 -1.15,-11
Top Designator:
  text ".Designator" at -7.118,-5.508 h1.52

## PinHeader_2x11_P1.00mm_Vertical_SMD [mm]
pads (22):
  rect 2x0.5 smd: 1(-1.65,5) 2(1.65,5) 3(-1.65,4) 4(1.65,4) 5(-1.65,3) 6(1.65,3) 7(-1.65,2) 8(1.65,2) 9(-1.65,1) 10(1.65,1) 11(-1.65,0) 12(1.65,0) 13(-1.65,-1) 14(1.65,-1) 15(-1.65,-2) 16(1.65,-2) 17(-1.65,-3) 18(1.65,-3) 19(-1.65,-4) 20(1.65,-4) 21(-1.65,-5) 22(1.65,-5)
F.SilkS:
  lines w0.254: -2.59,5.56 -1.26,5.56 -1.26,5.61 1.26,5.61 1.26,5.56 ; -1.26,-5.56 -1.26,-5.61 1.26,-5.61 1.26,-5.56
Top Assembly:
  lines w0.254: -1.15,-5.15 -2.4,-5.15 -2.4,-4.85 -1.15,-4.85 ; -1.15,-4.15 -2.4,-4.15 -2.4,-3.85 -1.15,-3.85 ; -1.15,-3.15 -2.4,-3.15 -2.4,-2.85 -1.15,-2.85 ; -1.15,-2.15 -2.4,-2.15 -2.4,-1.85 -1.15,-1.85 ; -1.15,-1.15 -2.4,-1.15 -2.4,-0.85 -1.15,-0.85 ; -1.15,-0.15 -2.4,-0.15 -2.4,0.15 -1.15,0.15 ; -1.15,0.85 -2.4,0.85 -2.4,1.15 -1.15,1.15 ; -1.15,1.85 -2.4,1.85 -2.4,2.15 -1.15,2.15 ; -1.15,2.85 -2.4,2.85 -2.4,3.15 -1.15,3.15 ; -1.15,3.85 -2.4,3.85 -2.4,4.15 -1.15,4.15 ; -1.15,4.85 -2.4,4.85 -2.4,5.15 -1.15,5.15 ; 1.15,-5.15 2.4,-5.15 2.4,-4.85 1.15,-4.85 ; 1.15,-4.15 2.4,-4.15 2.4,-3.85 1.15,-3.85 ; 1.15,-3.15 2.4,-3.15 2.4,-2.85 1.15,-2.85 ; 1.15,-2.15 2.4,-2.15 2.4,-1.85 1.15,-1.85 ; 1.15,-1.15 2.4,-1.15 2.4,-0.85 1.15,-0.85 ; 1.15,-0.15 2.4,-0.15 2.4,0.15 1.15,0.15 ; 1.15,0.85 2.4,0.85 2.4,1.15 1.15,1.15 ; 1.15,1.85 2.4,1.85 2.4,2.15 1.15,2.15 ; 1.15,2.85 2.4,2.85 2.4,3.15 1.15,3.15 ; 1.15,3.85 2.4,3.85 2.4,4.15 1.15,4.15 ; 1.15,4.85 2.4,4.85 2.4,5.15 1.15,5.15 ; -1.15,5.15 -1.15,-5.5 1.15,-5.5 1.15,5.5 -0.8,5.5 -1.15,5.15
  text "'.Designator'" at 0.84,-4.047 h1
Top Courtyard:
  lines w0.254: -3.65,-6 3.65,-6 3.65,6 -3.65,6 -3.65,-6
Top Designator:
  text ".Designator" at -7.618,-0.508 h1.52

## PinHeader_2x12_P1.00mm_Horizontal [mm]
pads (24):
  rect 0.85x0.85 hole 0.5: 1(0,0)
  round 0.85 hole 0.5: 2(1,0) 3(0,-1) 4(1,-1) 5(0,-2) 6(1,-2) 7(0,-3) 8(1,-3) 9(0,-4) 10(1,-4) 11(0,-5) 12(1,-5) 13(0,-6) 14(1,-6) 15(0,-7) 16(1,-7) 17(0,-8) 18(1,-8) 19(0,-9) 20(1,-9) 21(0,-10) 22(1,-10) 23(0,-11) 24(1,-11)
F.SilkS:
  lines w0.254: -0.735,0 -0.735,0.735 0,0.735 ; 1.687,-11.26 1.79,-11.26 ; 1.687,-10.74 1.79,-10.74 ; 1.687,-10.26 1.79,-10.26 ; 1.687,-9.74 1.79,-9.74 ; 1.687,-9.26 1.79,-9.26 ; 1.687,-8.74 1.79,-8.74 ; 1.687,-8.26 1.79,-8.26 ; 1.687,-7.74 1.79,-7.74 ; 1.687,-7.26 1.79,-7.26 ; 1.687,-6.74 1.79,-6.74 ; 1.687,-6.26 1.79,-6.26 ; 1.687,-5.74 1.79,-5.74 ; 1.687,-5.26 1.79,-5.26 ; 1.687,-4.74 1.79,-4.74 ; 1.687,-4.26 1.79,-4.26 ; 1.687,-3.74 1.79,-3.74 ; 1.687,-3.26 1.79,-3.26 ; 1.687,-2.74 1.79,-2.74 ; 1.687,-2.26 1.79,-2.26 ; 1.687,-1.74 1.79,-1.74 ; 1.687,-1.26 1.79,-1.26 ; 1.687,-0.74 1.79,-0.74 ; 1.687,-0.26 1.79,-0.26 ; 1.687,0.26 1.79,0.26 ; 1.79,-10.5 3.21,-10.5 ; 1.79,-9.5 3.21,-9.5 ; 1.79,-8.5 3.21,-8.5 ; 1.79,-7.5 3.21,-7.5 ; 1.79,-6.5 3.21,-6.5 ; 1.79,-5.5 3.21,-5.5 ; 1.79,-4.5 3.21,-4.5 ; 1.79,-3.5 3.21,-3.5 ; 1.79,-2.5 3.21,-2.5 ; 1.79,-1.5 3.21,-1.5 ; 1.79,-0.5 3.21,-0.5 ; 3.21,-11.26 5.21,-11.26 5.21,-10.74 3.21,-10.74 ; 3.21,-10.26 5.21,-10.26 5.21,-9.74 3.21,-9.74 ; 3.21,-9.26 5.21,-9.26 5.21,-8.74 3.21,-8.74 ; 3.21,-8.26 5.21,-8.26 5.21,-7.74 3.21,-7.74 ; 3.21,-7.26 5.21,-7.26 5.21,-6.74 3.21,-6.74 ; 3.21,-6.26 5.21,-6.26 5.21,-5.74 3.21,-5.74 ; 3.21,-5.26 5.21,-5.26 5.21,-4.74 3.21,-4.74 ; 3.21,-4.26 5.21,-4.26 5.21,-3.74 3.21,-3.74 ; 3.21,-3.26 5.21,-3.26 5.21,-2.74 3.21,-2.74 ; 3.21,-2.26 5.21,-2.26 5.21,-1.74 3.21,-1.74 ; 3.21,-1.26 5.21,-1.26 5.21,-0.74 3.21,-0.74 ; 1.79,-11.61 3.21,-11.61 3.21,0.61 1.79,0.61 1.79,-11.61 ; 3.21,-0.26 5.21,-0.26 5.21,0.26 3.21,0.26 3.21,-0.26
Top Assembly:
  lines w0.254: 1.9,-11.15 -0.15,-11.15 -0.15,-10.85 1.9,-10.85 ; 1.9,-10.15 -0.15,-10.15 -0.15,-9.85 1.9,-9.85 ; 1.9,-9.15 -0.15,-9.15 -0.15,-8.85 1.9,-8.85 ; 1.9,-8.15 -0.15,-8.15 -0.15,-7.85 1.9,-7.85 ; 1.9,-7.15 -0.15,-7.15 -0.15,-6.85 1.9,-6.85 ; 1.9,-6.15 -0.15,-6.15 -0.15,-5.85 1.9,-5.85 ; 1.9,-5.15 -0.15,-5.15 -0.15,-4.85 1.9,-4.85 ; 1.9,-4.15 -0.15,-4.15 -0.15,-3.85 1.9,-3.85 ; 1.9,-3.15 -0.15,-3.15 -0.15,-2.85 1.9,-2.85 ; 1.9,-2.15 -0.15,-2.15 -0.15,-1.85 1.9,-1.85 ; 1.9,-1.15 -0.15,-1.15 -0.15,-0.85 1.9,-0.85 ; 1.9,-0.15 -0.15,-0.15 -0.15,0.15 1.9,0.15 ; 3.1,-11.15 5.1,-11.15 5.1,-10.85 3.1,-10.85 ; 3.1,-10.15 5.1,-10.15 5.1,-9.85 3.1,-9.85 ; 3.1,-9.15 5.1,-9.15 5.1,-8.85 3.1,-8.85 ; 3.1,-8.15 5.1,-8.15 5.1,-7.85 3.1,-7.85 ; 3.1,-7.15 5.1,-7.15 5.1,-6.85 3.1,-6.85 ; 3.1,-6.15 5.1,-6.15 5.1,-5.85 3.1,-5.85 ; 3.1,-5.15 5.1,-5.15 5.1,-4.85 3.1,-4.85 ; 3.1,-4.15 5.1,-4.15 5.1,-3.85 3.1,-3.85 ; 3.1,-3.15 5.1,-3.15 5.1,-2.85 3.1,-2.85 ; 3.1,-2.15 5.1,-2.15 5.1,-1.85 3.1,-1.85 ; 3.1,-1.15 5.1,-1.15 5.1,-0.85 3.1,-0.85 ; 3.1,-0.15 5.1,-0.15 5.1,0.15 3.1,0.15 ; 1.9,-11.5 3.1,-11.5 3.1,0.5 2.2,0.5 1.9,0.2 1.9,-11.5
  text "'.Designator'" at 3.105,-8.414 h0.72
Top Courtyard:
  lines w0.254: -1,-12 5.6,-12 5.6,1 -1,1 -1,-12
Top Designator:
  text ".Designator" at -5.318,-6.008 h1.52